# Altium footprint library ATK-SIM800C.PcbLib: 25 footprints (part 2 of 2)
Each footprint in its own frame and in the unit in brackets; x right, y up, seen from the top. Pads: shape width x height; smd on the part's side, far side on the other; paste and mask are expansions set on the pad; w line width, h text height; cw(c..) or ccw(c..) is an arc to the next point about the centre after c.
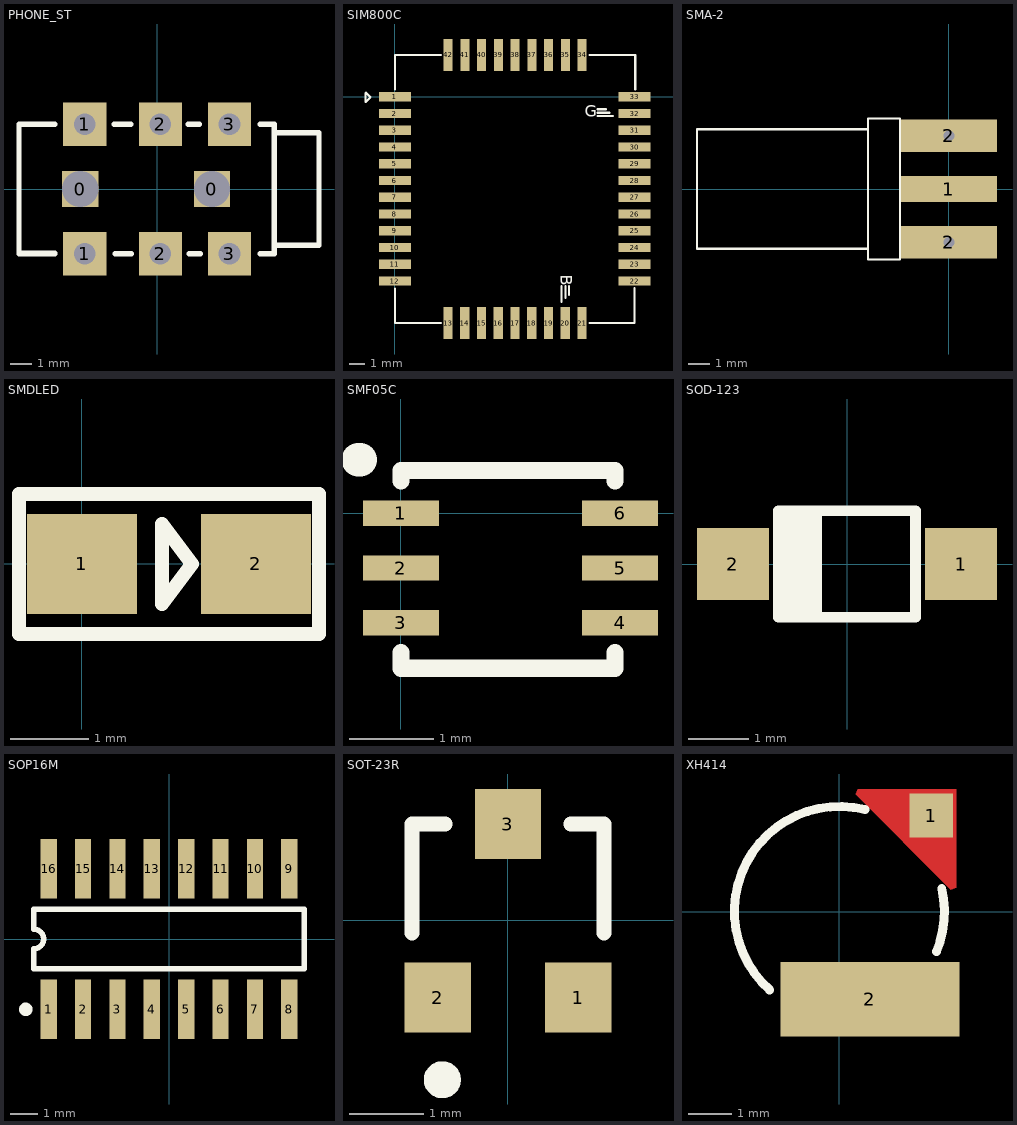
[diagram p1: the footprints below, top view; thin cyan lines are the x and y axes]

## PHONE_ST [mm] "PHONE_ST"
height 9
pads (8):
  rect 1.676x1.676 hole 1.676: 0(-3.556,0) 0(2.54,0)
  rect 2x2 hole 1: 1(-3.35,-3) 1(-3.35,3) 2(0.15,-3) 2(0.15,3) 3(3.35,-3) 3(3.35,3)
Top Overlay:
  lines w0.254: -6.393,-2.969 -4.742,-2.969 ; -4.742,-3.007 -6.393,-3.007 -6.393,3 -4.742,3 ; -1.986,3 -1.224,3 ; -1.948,-3.007 -1.186,-3.007 ; 1.443,3 1.951,3 ; 1.481,-3.007 1.989,-3.007 ; 4.783,-3.007 5.33,-3.007 ; 4.783,3 5.418,3 5.418,-3.007 ; 5.418,-2.6 7.493,-2.6 7.493,2.6 5.418,2.6

## SIM800C [mm] "SIM800C"
pads (42):
  rect 2.1x0.6 smd: 1(0,0) 2(0,-1.1) 3(0,-2.2) 4(0,-3.3) 5(0,-4.4) 6(0,-5.5) 7(0,-6.6) 8(0,-7.7) 9(0,-8.8) 10(0,-9.9) 11(0,-11) 12(0,-12.1) 22(15.74,-12.1) 23(15.74,-11) 24(15.74,-9.9) 25(15.74,-8.8) 26(15.74,-7.7) 27(15.74,-6.6) 28(15.74,-5.5) 29(15.74,-4.4) 30(15.74,-3.3) 31(15.74,-2.2) 32(15.74,-1.1) 33(15.74,0)
  rect 0.6x2.1 smd: 13(3.492,-14.859) 14(4.592,-14.859) 15(5.692,-14.859) 16(6.792,-14.859) 17(7.892,-14.859) 18(8.992,-14.859) 19(10.092,-14.859) 20(11.192,-14.859) 21(12.292,-14.859) 34(12.299,2.743) 35(11.199,2.743) 36(10.099,2.743) 37(8.999,2.743) 38(7.899,2.743) 39(6.799,2.743) 40(5.699,2.743) 41(4.599,2.743) 42(3.499,2.743)
Top Overlay:
  lines w0.14: -1.93,0.254 -1.93,-0.356 -1.626,-0.051 ; -1.905,0.279 -1.6,-0.025 ; 0,0.483 0,2.75 2.65,2.75 3.014,2.75 ; 0.012,-12.598 0.012,-14.859 3.017,-14.859 ; 12.774,-14.859 15.74,-14.859 15.74,-13.919 15.74,-12.573 ; 12.776,2.743 13.118,2.743 15.768,2.743 ; 15.785,0.483 15.785,2.75
  lines w0.15: 10.947,-13.462 10.947,-12.446 ; 11.201,-13.208 11.201,-12.446 ; 11.43,-13.005 11.43,-12.446 ; 13.31,-1.27 14.326,-1.27 ; 13.31,-1.041 14.072,-1.041 ; 13.31,-0.813 13.868,-0.813
  text "G" at 12.471,-1.321 h0.76
  text "B" at 10.897,-11.684 h0.76

## SMA-2 [mm]
pads (3):
  rect 4.5x1.2 smd: 1(0,0)
  rect 4.5x1.524 hole 0.5: 2(0,-2.5) 2(0,2.5)
Top Overlay:
  lines w0.1: -3.8,-2.8 -11.8,-2.8 -11.8,2.8 -3.8,2.8 ; -3.8,-3.3 -3.8,3.3 -2.3,3.3 -2.3,-3.3 -3.8,-3.3

## SMDLED [mm]
pads (2):
  rect 1.4x1.27 smd: 1(0.001,-0.002) 2(2.211,-0.002)
Top Overlay:
  lines w0.178: 3.012,0.887 3.011,0.887 ; 3.011,0.887 -0.799,0.887 -0.799,-0.002 -0.799,-0.891 3.011,-0.891 3.011,0.887 ; 1.017,-0.51 1.398,-0.002 1.017,0.506 1.017,-0.51

## SMF05C [mm] "SOT-363"
pads (6):
  rect 0.9x0.3 smd: 1(0,0) 2(0,-0.65) 3(0,-1.3) 4(2.6,-1.3) 5(2.6,-0.65) 6(2.6,0)
Top Overlay:
  lines w0.203: 0,-1.651 0,-1.838 2.54,-1.838 2.54,-1.651 ; 0,0.381 0,0.508 2.54,0.508 2.54,0.381
  lines w0.4: -0.508,0.635 -0.483,0.635

## SOD-123 [mm]
height 1
pads (2):
  rect 1.2x1.2 smd: 1(1.905,0) 2(-1.905,0)
Top Overlay:
  rectangle: -1.143,-0.889 -0.508,0.889
  lines w0.178: -0.508,-0.889 -0.508,0.889 ; -1.143,-0.889 -1.143,0.889 1.143,0.889 1.143,0.445 1.143,-0.445 1.143,-0.889 -1.143,-0.889

## SOP16M [mm] "Small Outline; 16 Leads; Body Width 3.9 mm; Pitch 1.27 mm"
height 1.75
pads (16):
  rect 0.6x2.2 smd: 1(-4.445,-2.6) 2(-3.175,-2.6) 3(-1.905,-2.6) 4(-0.635,-2.6) 5(0.635,-2.6) 6(1.905,-2.6) 7(3.175,-2.6) 8(4.445,-2.6) 9(4.445,2.6) 10(3.175,2.6) 11(1.905,2.6) 12(0.635,2.6) 13(-0.635,2.6) 14(-1.905,2.6) 15(-3.175,2.6) 16(-4.445,2.6)
Top Overlay:
  circle w0.25: c-5.295,-2.6 r0.125
  lines w0.2: -5,-1.1 -5,-0.367 ccw(c-5,0) -5,0.367 -5,1.1 5,1.1 5,-1.1 -5,-1.1

## SOT-23R [mm] "SOT-23; 3 Leads; Body 3.0 x 2.5 mm, inc. leads (LxW max)"
height 1.2
pads (3):
  rect 0.9x0.95 smd: 1(0.95,-1.048) 2(-0.95,-1.048) 3(0,1.302)
Top Overlay:
  circle w0.25: c-0.889,-2.161 r0.125
  lines w0.2: -1.3,-0.173 -1.3,1.302 -0.85,1.302 ; 0.85,1.302 1.3,1.302 1.3,-0.173

## XH414 [mm]
pads (2):
  rect 1x1 smd: 1(2.1,2.2)
  rect 4.1x1.7 smd: 2(0.7,-2)
Top Layer:
  region: 2.667,0.553 2.55,0.504 0.371,2.683 0.42,2.8 2.667,2.8
Top Overlay:
  lines w0.203: -1.592,-1.785 cw(c0.002,0.008) 0.584,2.337 ; 2.221,-0.909 ccw(c0,0) 2.34,0.532
Top Solder:
  region: 2.706,0.559 2.589,0.511 0.411,2.689 0.459,2.806 2.706,2.806